# EAGLE library part SN74LS08 (library IowaFormula)
Quad 2-input AND gate SN74LS08 Google Drive Datasheet <https://drive.google.com/open?id=1XmxraSDUQzczrc2Ahz6rILRLTal7cU12>
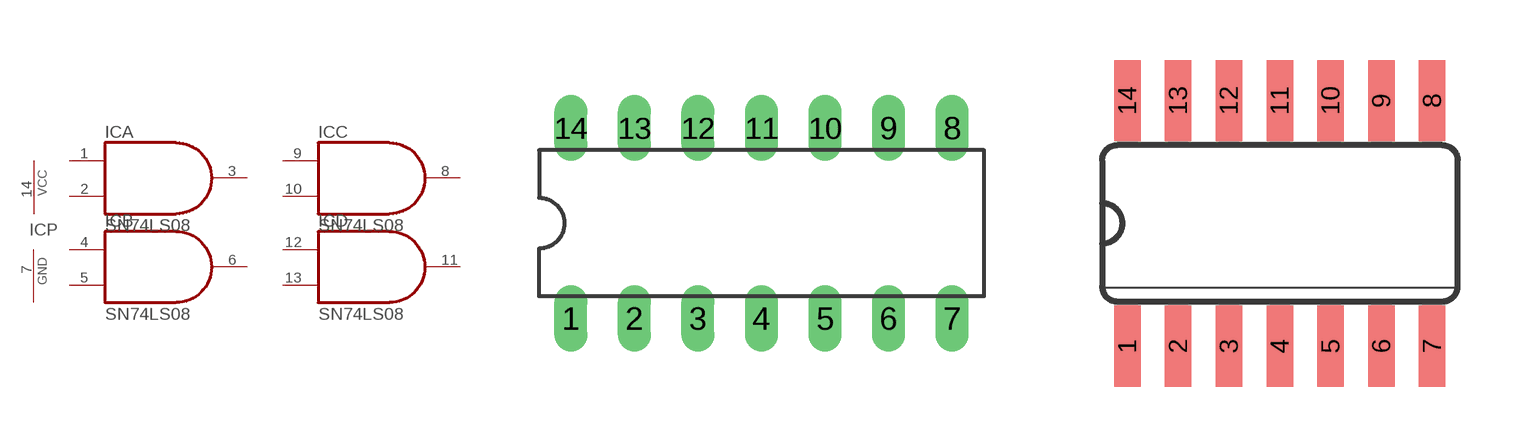
[diagram p1: symbol with the pads of DIL14; footprints DIL14, SO14]

Designator prefix IC; gates A=7408 B=7408 C=7408 D=7408 P=PWRN-2

## SN74LS08ALSN, SN74LS08ASN, SN74LS08LSN, SN74LS08SN  [DIL14]
1  A:I0  in
2  A:I1  in
3  A:O  out
4  B:I0  in
5  B:I1  in
6  B:O  out
7  P:GND  pwr
8  C:O  out
9  C:I0  in
10  C:I1  in
11  D:O  out
12  D:I0  in
13  D:I1  in
14  P:VCC  pwr

## SN74LS08ALSD, SN74LS08ASD, SN74LS08LSD, SN74LS08SD  [SO14]
Pads as for DIL14

## Footprint DIL14 (pad centres in mm)
Dual In Line Package
drill 0.813 long: 1 -7.62,-3.81; 2 -5.08,-3.81; 3 -2.54,-3.81; 4 0,-3.81; 5 2.54,-3.81; 6 5.08,-3.81; 7 7.62,-3.81; 8 7.62,3.81; 9 5.08,3.81; 10 2.54,3.81; 11 0,3.81; 12 -2.54,3.81; 13 -5.08,3.81; 14 -7.62,3.81

## Footprint SO14 (pad centres in mm)
Small Outline package 150 mil
smd 0.66 x 2.032: 1 -3.81,-3.073; 2 -2.54,-3.073; 3 -1.27,-3.073; 4 0,-3.073; 5 1.27,-3.073; 6 2.54,-3.073; 7 3.81,-3.073; 8 3.81,3.073; 9 2.54,3.073; 10 1.27,3.073; 11 0,3.073; 12 -1.27,3.073; 13 -2.54,3.073; 14 -3.81,3.073